# Altium schematic symbol library my_seh_lib.SchLib: 13 symbols
Pins are listed as number, name and electrical type; pins without a type are passive.

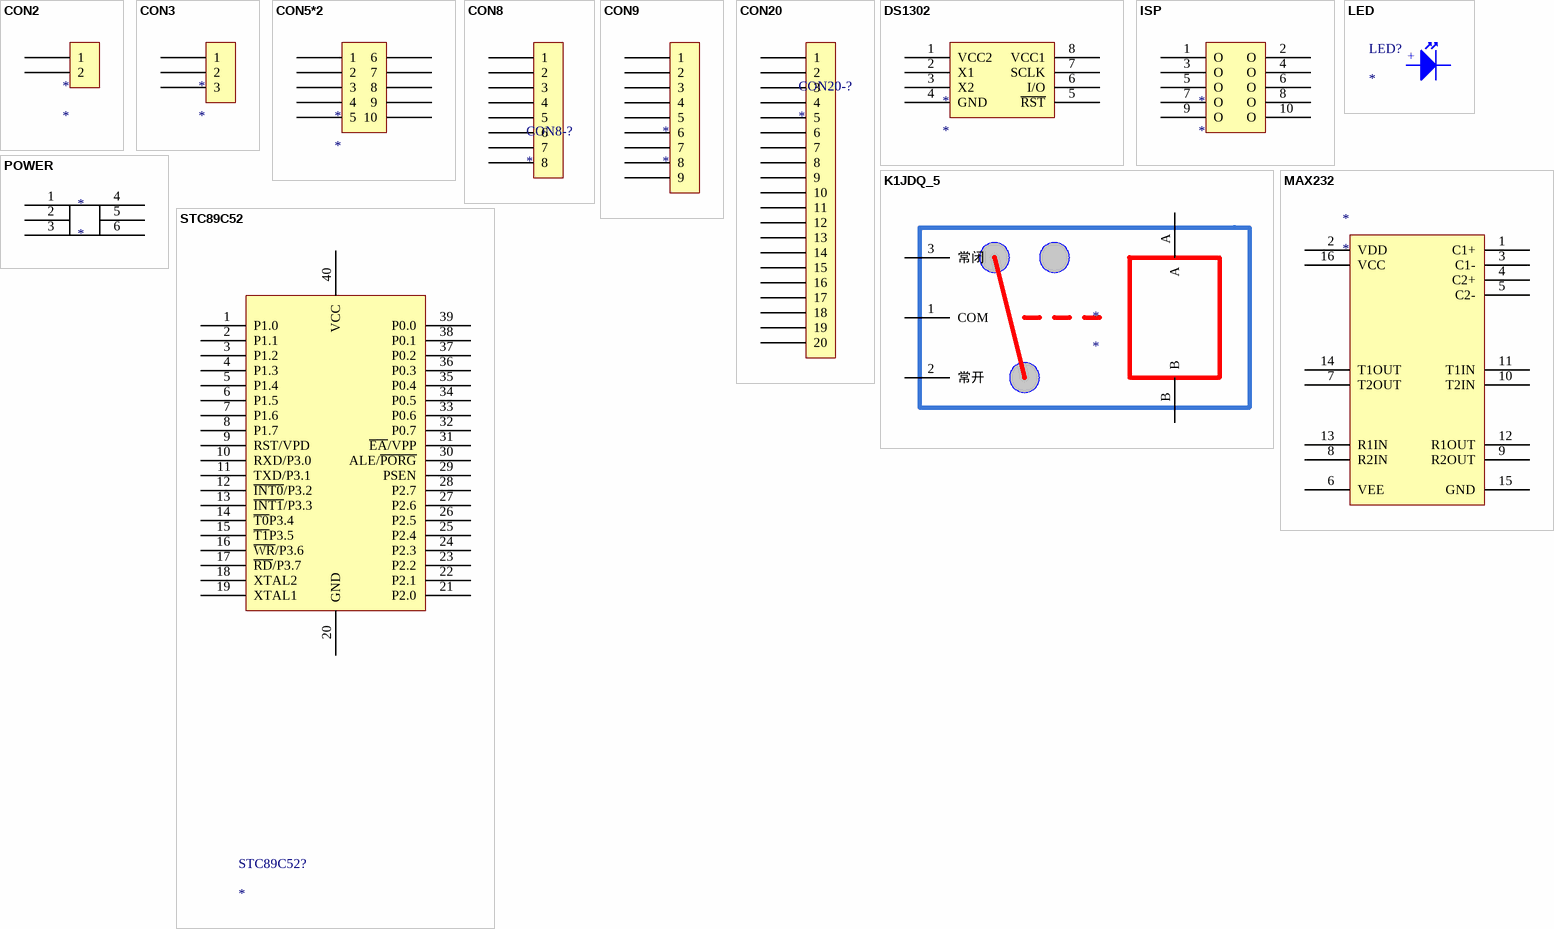
[diagram p0: symbols CON2 to STC89C52]

## CON2
designator *
pins: 1, 2

## CON3
designator *
pins: 1, 2, 3

## CON5*2
designator *
pins: 1, 2, 3, 4, 5, 6, 7, 8, 9, 10

## CON8
designator CON8-?
pins: 1, 2, 3, 4, 5, 6, 7, 8

## CON9
designator *
pins: 1, 2, 3, 4, 5, 6, 7, 8, 9

## CON20
designator CON20-?
pins: 1, 2, 3, 4, 5, 6, 7, 8, 9, 10, 11, 12, 13, 14, 15, 16, 17, 18, 19, 20

## DS1302
designator *
pins: 1 VCC2, 2 X1, 3 X2, 4 GND, 5 ~{RST}, 6 I/O, 7 SCLK, 8 VCC1

## ISP
designator *
pins: 1 O, 2 O, 3 O, 4 O, 5 O, 6 O, 7 O, 8 O, 9 O, 10 O

## K1JDQ_5
designator *
pins: 1 COM, 2 常开, 3 常闭, A, B

## LED
designator LED?
pins: +, -

## MAX232
designator *
pins: 1 C1+, 2 VDD, 3 C1-, 4 C2+, 5 C2-, 6 VEE, 7 T2OUT, 8 R2IN, 9 R2OUT, 10 T2IN, 11 T1IN, 12 R1OUT, 13 R1IN, 14 T1OUT, 15 GND, 16 VCC

## POWER
designator *
pins: 1, 2, 3, 4, 5, 6

## STC89C52
designator STC89C52?
pins: 1 P1.0, 2 P1.1, 3 P1.2, 4 P1.3, 5 P1.4, 6 P1.5, 7 P1.6, 8 P1.7, 9 RST/VPD, 10 RXD/P3.0, 11 TXD/P3.1, 12 ~{INT0}/P3.2, 13 ~{INT1}/P3.3, 14 ~{T0}P3.4, 15 ~{T1}P3.5, 16 ~{WR}/P3.6, 17 ~{RD}/P3.7, 18 XTAL2, 19 XTAL1, 20 GND, 21 P2.0, 22 P2.1, 23 P2.2, 24 P2.3, 25 P2.4, 26 P2.5, 27 P2.6, 28 P2.7, 29 PSEN, 30 ALE/~{PORG}, 31 ~{EA}/VPP, 32 P0.7, 33 P0.6, 34 P0.5, 35 P0.4, 36 P0.3, 37 P0.2, 38 P0.1, 39 P0.0, 40 VCC